# Altium footprint library TPS563210A.PcbLib: 1 footprints
Each footprint in its own frame and in the unit in brackets; x right, y up, seen from the top. Pads: shape width x height; smd on the part's side, far side on the other; paste and mask are expansions set on the pad; w line width, h text height; cw(c..) or ccw(c..) is an arc to the next point about the centre after c.
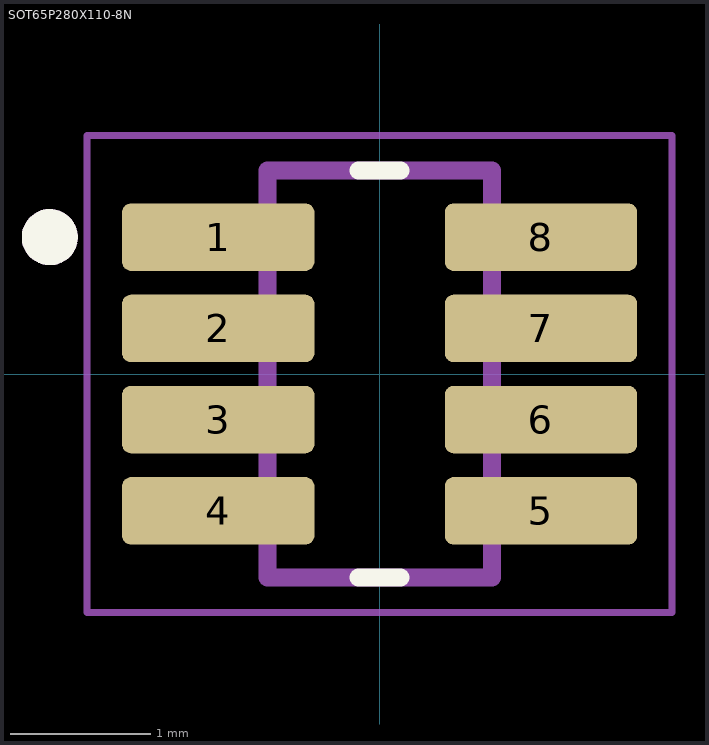
[diagram p0: the footprint, top view; thin cyan lines are the x and y axes]

## SOT65P280X110-8N [mm]
pads (8):
  rrect25% 1.37x0.48 smd paste+0 mask+0: 1(-1.15,0.975) 2(-1.15,0.325) 3(-1.15,-0.325) 4(-1.15,-0.975) 5(1.15,-0.975) 6(1.15,-0.325) 7(1.15,0.325) 8(1.15,0.975)
Top Overlay:
  circle w0.2: c-2.35,0.975 r0.1
  lines w0.127: -0.15,-1.45 0.15,-1.45 ; -0.15,1.45 0.15,1.45
Top Solder:
  drawing of 8 lines, arcs and shapes, not listed
Assembly Top:
  circle w0.2: c-2.35,0.975 r0.1
  lines w0.127: -0.8,-1.45 -0.8,1.45 0.8,1.45 0.8,-1.45 -0.8,-1.45
Courtyard Top:
  lines w0.05: -2.085,-1.7 -2.085,1.7 2.085,1.7 2.085,-1.7 -2.085,-1.7